# Altium schematic symbol library MAX14933ASE.SchLib: 1 symbol
Pins are listed as number, name and electrical type; pins without a type are passive.

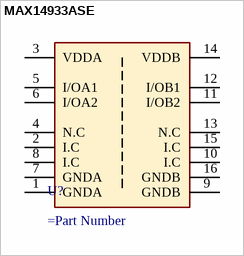
[diagram p0: symbol MAX14933ASE]

## MAX14933ASE
designator U?
=Description
pins: 1 GNDA, 2 I.C, 3 VDDA, 4 N.C, 5 I/OA1, 6 I/OA2, 7 GNDA, 8 I.C, 9 GNDB, 10 I.C, 11 I/OB2, 12 I/OB1, 13 N.C, 14 VDDB, 15 I.C, 16 GNDB